# Altium footprint library WE-RFH.PcbLib: 1 footprints
Each footprint in its own frame and in the unit in brackets; x right, y up, seen from the top. Pads: shape width x height; smd on the part's side, far side on the other; paste and mask are expansions set on the pad; w line width, h text height; cw(c..) or ccw(c..) is an arc to the next point about the centre after c.
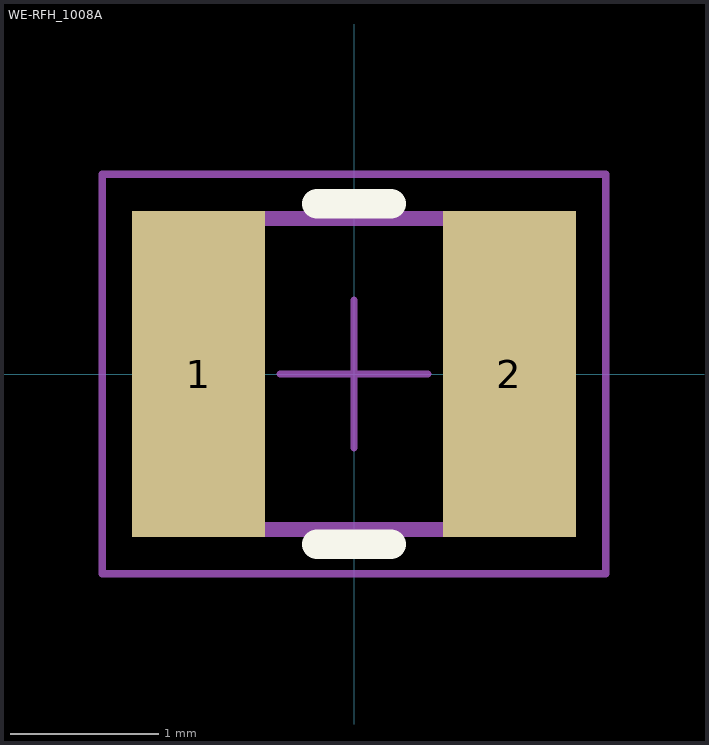
[diagram p0: the footprint, top view; thin cyan lines are the x and y axes]

## WE-RFH_1008A [mm] "Ferrite SMD Inductor, body 2.60x2.10mm, 2-Leads"
height 1.9
pads (2):
  rect 0.9x2.2 smd: 1(-1.05,0) 2(1.05,0)
Top Overlay:
  lines w0.2: -0.25,-1.15 0.25,-1.15 ; -0.25,1.15 0.25,1.15
Top Designator:
  text ".Designator" at -3.499,-0.233 h0.7
Top Component Outline:
  lines w0.1: -1.3,-1.05 -1.3,1.05 1.3,1.05 1.3,-1.05 -1.3,-1.05
Top 3D Body:
  lines w0.1: -1.3,-1.05 -1.3,1.05 1.3,1.05 1.3,-1.05 -1.3,-1.05
Top Courtyard:
  lines w0.05: -0.5,0 0.5,0 ; 0,-0.5 0,0.5 ; -1.7,-1.35 1.7,-1.35 1.7,1.35 -1.7,1.35 -1.7,-1.35
3D body "744758310A.stp": height 1.8, standoff 0, extent -1.3,-1.05 1.3,1.05